# Altium footprint library NXP.PcbLib: 5 footprints (part 3 of 3)
Each footprint in its own frame and in the unit in brackets; x right, y up, seen from the top. Pads: shape width x height; smd on the part's side, far side on the other; paste and mask are expansions set on the pad; w line width, h text height; cw(c..) or ccw(c..) is an arc to the next point about the centre after c.
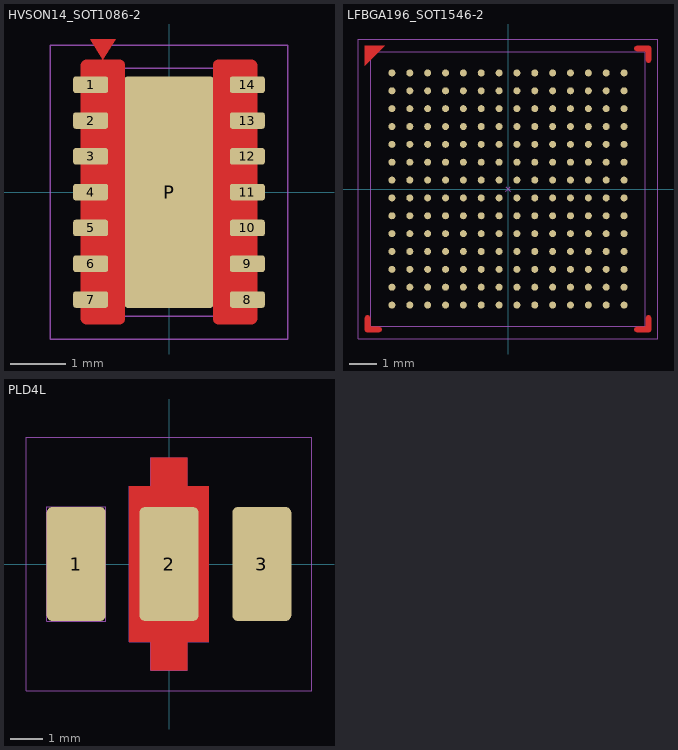
[diagram p2: the footprints below, top view; thin cyan lines are the x and y axes]

## HVSON14_SOT1086-2 [mm]
height 0.9
pads (15):
  rrect30% 0.635x0.3 smd mask+0.051: 1(-1.422,1.95) 2(-1.422,1.3) 3(-1.422,0.65) 4(-1.422,0) 5(-1.422,-0.65) 6(-1.422,-1.3) 7(-1.422,-1.95) 8(1.422,-1.95) 9(1.422,-1.3) 10(1.422,-0.65) 11(1.422,0) 12(1.422,0.65) 13(1.422,1.3) 14(1.422,1.95)
  rrect5% 1.6x4.2 smd paste-200 mask+0.051: P(0,0)
Top Layer:
  region: -1.2,2.4 -0.971,2.781 -1.429,2.781
  pour cut-out: -0.8,2.3 -0.8,2.32 -0.815,2.357 -0.843,2.385 -0.88,2.4 -0.9,2.4 -1.5,2.4 -1.52,2.4 -1.557,2.385 -1.585,2.357 -1.6,2.32 -1.6,2.3 -1.6,-2.3 -1.6,-2.32 -1.585,-2.357 -1.557,-2.385 -1.52,-2.4 -1.5,-2.4 -0.9,-2.4 -0.88,-2.4 -0.843,-2.385 -0.815,-2.357 -0.8,-2.32 -0.8,-2.3
  pour cut-out: 0.8,-2.3 0.8,-2.32 0.815,-2.357 0.843,-2.385 0.88,-2.4 0.9,-2.4 1.5,-2.4 1.52,-2.4 1.557,-2.385 1.585,-2.357 1.6,-2.32 1.6,-2.3 1.6,2.3 1.6,2.32 1.585,2.357 1.557,2.385 1.52,2.4 1.5,2.4 0.9,2.4 0.88,2.4 0.843,2.385 0.815,2.357 0.8,2.32 0.8,2.3
Top Paste:
  rectangle: 0.127,1.432 0.762,2.042
  rectangle: 0.127,0.569 0.762,1.178
  rectangle: 0.127,-0.295 0.762,0.315
  rectangle: -0.762,-0.295 -0.127,0.315
  rectangle: -0.762,0.569 -0.127,1.178
  rectangle: -0.762,1.432 -0.127,2.042
  rectangle: -0.762,-1.178 -0.127,-0.569
  rectangle: -0.762,-2.042 -0.127,-1.432
  rectangle: 0.127,-2.042 0.762,-1.432
  rectangle: 0.127,-1.178 0.762,-0.569
Top Designator:
  text ".Designator" at 0.317,-3.242 h0.89
Top Component Center:
  lines w0.025: -0.076,-0.076 0,0 ; -0.076,0.076 0,0 ; 0.076,-0.076 0,0 ; 0.076,0.076 0,0
Top Courtyard:
  lines w0.025: -2.159,-2.667 -2.159,2.667 2.159,2.667 2.159,-2.667 -2.159,-2.667
Top Component Outline:
  lines w0.025: -1.524,-2.1 -1.096,-2.1 -1.096,-1.8 -1.524,-1.8 -1.524,-2.1 ; -1.524,-1.45 -1.096,-1.45 -1.096,-1.15 -1.524,-1.15 -1.524,-1.45 ; -1.524,-0.8 -1.524,-0.5 -1.096,-0.5 -1.096,-0.8 -1.524,-0.8 ; -1.524,-0.15 -1.524,0.15 -1.096,0.15 -1.096,-0.15 -1.524,-0.15 ; -1.524,0.5 -1.096,0.5 -1.096,0.8 -1.524,0.8 -1.524,0.5 ; -1.524,1.15 -1.524,1.45 -1.096,1.45 -1.096,1.15 -1.524,1.15 ; -1.524,1.8 -1.524,2.1 -1.096,2.1 -1.096,1.8 -1.524,1.8 ; -1.5,-2.25 1.5,-2.25 1.5,2.25 -1.5,2.25 -1.5,-2.25 ; 1.096,-2.1 1.096,-1.8 1.524,-1.8 1.524,-2.1 1.096,-2.1 ; 1.096,-1.45 1.524,-1.45 1.524,-1.15 1.096,-1.15 1.096,-1.45 ; 1.096,-0.8 1.096,-0.5 1.524,-0.5 1.524,-0.8 1.096,-0.8 ; 1.096,-0.15 1.096,0.15 1.524,0.15 1.524,-0.15 1.096,-0.15 ; 1.096,0.5 1.524,0.5 1.524,0.8 1.096,0.8 1.096,0.5 ; 1.096,1.15 1.096,1.45 1.524,1.45 1.524,1.15 1.096,1.15 ; 1.096,1.8 1.524,1.8 1.524,2.1 1.096,2.1 1.096,1.8
3D body: height 0.2, standoff 0, extent -1.524,-0.15 -1.096,0.15
3D body: height 0.2, standoff 0, extent -1.524,1.8 -1.096,2.1
3D body: height 0.2, standoff 0, extent -1.524,1.15 -1.096,1.45
3D body: height 0.2, standoff 0, extent -1.524,0.5 -1.096,0.8
3D body: height 0.85, standoff 0.05, extent -1.5,-2.25 1.5,2.25
3D body: height 0.85, standoff 0.84, extent -1.218,1.665 -0.914,1.969
3D body: height 0.2, standoff 0, extent 1.096,1.15 1.524,1.45
3D body: height 0.2, standoff 0, extent 1.096,0.5 1.524,0.8
3D body: height 0.2, standoff 0, extent 1.096,-0.15 1.524,0.15
3D body: height 0.2, standoff 0, extent 1.096,1.8 1.524,2.1
3D body: height 0.2, standoff 0, extent 1.096,-2.1 1.524,-1.8
3D body: height 0.2, standoff 0, extent 1.096,-1.45 1.524,-1.15
3D body: height 0.2, standoff 0, extent 1.096,-0.8 1.524,-0.5
3D body: height 0.2, standoff 0, extent -1.524,-1.45 -1.096,-1.15
3D body: height 0.2, standoff 0, extent -1.524,-0.8 -1.096,-0.5
3D body: height 0.2, standoff 0, extent -1.524,-2.1 -1.096,-1.8

## LFBGA196_SOT1546-2 [mil]
pads (196):
  round 10 smd mask+1.5: A1(-166.34,166.34) A2(-140.75,166.34) A3(-115.16,166.34) A4(-89.57,166.34) A5(-63.98,166.34) A6(-38.39,166.34) A7(-12.8,166.34) A8(12.8,166.34) A9(38.39,166.34) A10(63.98,166.34) A11(89.57,166.34) A12(115.16,166.34) A13(140.75,166.34) A14(166.34,166.34) B1(-166.34,140.75) B2(-140.75,140.75) B3(-115.16,140.75) B4(-89.57,140.75) B5(-63.98,140.75) B6(-38.39,140.75) B7(-12.8,140.75) B8(12.8,140.75) B9(38.39,140.75) B10(63.98,140.75) B11(89.57,140.75) B12(115.16,140.75) B13(140.75,140.75) B14(166.34,140.75) C1(-166.34,115.16) C2(-140.75,115.16) C3(-115.16,115.16) C4(-89.57,115.16) C5(-63.98,115.16) C6(-38.39,115.16) C7(-12.8,115.16) C8(12.8,115.16) C9(38.39,115.16) C10(63.98,115.16) C11(89.57,115.16) C12(115.16,115.16) C13(140.75,115.16) C14(166.34,115.16) D1(-166.34,89.57) D2(-140.75,89.57) D3(-115.16,89.57) D4(-89.57,89.57) D5(-63.98,89.57) D6(-38.39,89.57) D7(-12.8,89.57) D8(12.8,89.57) D9(38.39,89.57) D10(63.98,89.57) D11(89.57,89.57) D12(115.16,89.57) D13(140.75,89.57) D14(166.34,89.57) E1(-166.34,63.98) E2(-140.75,63.98) E3(-115.16,63.98) E4(-89.57,63.98) E5(-63.98,63.98) E6(-38.39,63.98) E7(-12.8,63.98) E8(12.8,63.98) E9(38.39,63.98) E10(63.98,63.98) E11(89.57,63.98) E12(115.16,63.98) E13(140.75,63.98) E14(166.34,63.98) F1(-166.34,38.39) F2(-140.75,38.39) F3(-115.16,38.39) F4(-89.57,38.39) F5(-63.98,38.39) F6(-38.39,38.39) F7(-12.8,38.39) F8(12.8,38.39) F9(38.39,38.39) F10(63.98,38.39) F11(89.57,38.39) F12(115.16,38.39) F13(140.75,38.39) F14(166.34,38.39) G1(-166.34,12.8) G2(-140.75,12.8) G3(-115.16,12.8) G4(-89.57,12.8) G5(-63.98,12.8) G6(-38.39,12.8) G7(-12.8,12.8) G8(12.8,12.8) G9(38.39,12.8) G10(63.98,12.8) G11(89.57,12.8) G12(115.16,12.8) G13(140.75,12.8) G14(166.34,12.8) H1(-166.34,-12.8) H2(-140.75,-12.8) H3(-115.16,-12.8) H4(-89.57,-12.8) H5(-63.98,-12.8) H6(-38.39,-12.8) H7(-12.8,-12.8) H8(12.8,-12.8) H9(38.39,-12.8) H10(63.98,-12.8) H11(89.57,-12.8) H12(115.16,-12.8) H13(140.75,-12.8) H14(166.34,-12.8) J1(-166.34,-38.39) J2(-140.75,-38.39) J3(-115.16,-38.39) J4(-89.57,-38.39) J5(-63.98,-38.39) J6(-38.39,-38.39) J7(-12.8,-38.39) J8(12.8,-38.39) J9(38.39,-38.39) J10(63.98,-38.39) J11(89.57,-38.39) J12(115.16,-38.39) J13(140.75,-38.39) J14(166.34,-38.39) K1(-166.34,-63.98) K2(-140.75,-63.98) K3(-115.16,-63.98) K4(-89.57,-63.98) K5(-63.98,-63.98) K6(-38.39,-63.98) K7(-12.8,-63.98) K8(12.8,-63.98) K9(38.39,-63.98) K10(63.98,-63.98) K11(89.57,-63.98) K12(115.16,-63.98) K13(140.75,-63.98) K14(166.34,-63.98) L1(-166.34,-89.57) L2(-140.75,-89.57) L3(-115.16,-89.57) L4(-89.57,-89.57) L5(-63.98,-89.57) L6(-38.39,-89.57) L7(-12.8,-89.57) L8(12.8,-89.57) L9(38.39,-89.57) L10(63.98,-89.57) L11(89.57,-89.57) L12(115.16,-89.57) L13(140.75,-89.57) L14(166.34,-89.57) M1(-166.34,-115.16) M2(-140.75,-115.16) M3(-115.16,-115.16) M4(-89.57,-115.16) M5(-63.98,-115.16) M6(-38.39,-115.16) M7(-12.8,-115.16) M8(12.8,-115.16) M9(38.39,-115.16) M10(63.98,-115.16) M11(89.57,-115.16) M12(115.16,-115.16) M13(140.75,-115.16) M14(166.34,-115.16) N1(-166.34,-140.75) N2(-140.75,-140.75) N3(-115.16,-140.75) N4(-89.57,-140.75) N5(-63.98,-140.75) N6(-38.39,-140.75) N7(-12.8,-140.75) N8(12.8,-140.75) N9(38.39,-140.75) N10(63.98,-140.75) N11(89.57,-140.75) N12(115.16,-140.75) N13(140.75,-140.75) N14(166.34,-140.75) P1(-166.34,-166.34) P2(-140.75,-166.34) P3(-115.16,-166.34) P4(-89.57,-166.34) P5(-63.98,-166.34) P6(-38.39,-166.34) P7(-12.8,-166.34) P8(12.8,-166.34) P9(38.39,-166.34) P10(63.98,-166.34) P11(89.57,-166.34) P12(115.16,-166.34) P13(140.75,-166.34) P14(166.34,-166.34)
Top Layer:
  region: -205.31,205.31 -205.31,176.77 -176.77,205.31
  region: 197.32,185.31 197.32,184.52 197.92,183.05 199.05,181.92 200.52,181.31 201.32,181.31 202.11,181.31 203.58,181.92 204.71,183.05 205.32,184.52 205.32,185.31 205.32,201.31 205.32,202.11 204.71,203.58 203.58,204.71 202.11,205.31 201.32,205.31 185.32,205.31 184.52,205.31 183.05,204.71 181.92,203.58 181.32,202.11 181.32,201.31 181.32,200.52 181.92,199.05 183.05,197.92 184.52,197.31 185.32,197.31 195.32,197.31 195.71,197.28 196.43,196.98 196.98,196.43 197.28,195.71 197.32,195.31
  region: -197.32,-185.31 -197.32,-184.52 -197.92,-183.05 -199.05,-181.92 -200.52,-181.31 -201.32,-181.31 -202.11,-181.31 -203.58,-181.92 -204.71,-183.05 -205.32,-184.52 -205.32,-185.31 -205.32,-201.31 -205.32,-202.11 -204.71,-203.58 -203.58,-204.71 -202.11,-205.31 -201.32,-205.31 -185.32,-205.31 -184.52,-205.31 -183.05,-204.71 -181.92,-203.58 -181.32,-202.11 -181.32,-201.31 -181.32,-200.52 -181.92,-199.05 -183.05,-197.92 -184.52,-197.31 -185.32,-197.31 -195.32,-197.31 -195.71,-197.28 -196.43,-196.98 -196.98,-196.43 -197.28,-195.71 -197.32,-195.31
  region: 185.31,-197.32 184.52,-197.32 183.05,-197.92 181.92,-199.05 181.31,-200.52 181.31,-201.32 181.31,-202.11 181.92,-203.58 183.05,-204.71 184.52,-205.32 185.31,-205.32 201.31,-205.32 202.11,-205.32 203.58,-204.71 204.71,-203.58 205.31,-202.11 205.31,-201.32 205.31,-185.32 205.31,-184.52 204.71,-183.05 203.58,-181.92 202.11,-181.32 201.31,-181.32 200.52,-181.32 199.05,-181.92 197.92,-183.05 197.31,-184.52 197.31,-185.32 197.31,-195.32 197.28,-195.71 196.98,-196.43 196.43,-196.98 195.71,-197.28 195.31,-197.32
Top Designator:
  text ".Designator" at -127.64,-12.5 h35
Top Component Center:
  lines w1: -3,-3 0,0 ; -3,3 0,0 ; 3,-3 0,0 ; 3,3 0,0
Top Courtyard:
  lines w1: -215,-215 -215,215 215,215 215,-215 -215,-215
Top Component Outline:
  lines w1: -196.85,-196.85 -196.85,196.85 196.85,196.85 196.85,-196.85 -196.85,-196.85
3D body: height 56.5, standoff 56.1, extent -176.26,156.36 -156.34,176.32
3D body: height 56.3, standoff 7.87, extent -196.85,-196.85 196.85,196.85
3D body: height 10.24, standoff -2.36, extent -172.54,160.42 -160.13,172.64
3D body: height 10.24, standoff -2.36, extent -146.95,160.42 -134.54,172.64
3D body: height 10.24, standoff -2.36, extent -121.36,160.42 -108.95,172.64
3D body: height 10.24, standoff -2.36, extent -95.77,160.42 -83.36,172.64
3D body: height 10.24, standoff -2.36, extent -70.18,160.42 -57.77,172.64
3D body: height 10.24, standoff -2.36, extent -44.59,160.42 -32.18,172.64
3D body: height 10.24, standoff -2.36, extent -19,160.42 -6.59,172.64
3D body: height 10.24, standoff -2.36, extent 6.59,160.42 19,172.64
3D body: height 10.24, standoff -2.36, extent 32.18,160.42 44.59,172.64
3D body: height 10.24, standoff -2.36, extent 57.77,160.42 70.18,172.64
3D body: height 10.24, standoff -2.36, extent 83.36,160.42 95.77,172.64
3D body: height 10.24, standoff -2.36, extent 108.95,160.42 121.36,172.64
3D body: height 10.24, standoff -2.36, extent 134.54,160.42 146.95,172.64
3D body: height 10.24, standoff -2.36, extent 160.13,160.42 172.54,172.64
3D body: height 10.24, standoff -2.36, extent -172.54,134.83 -160.13,147.05
3D body: height 10.24, standoff -2.36, extent -146.95,134.83 -134.54,147.05
3D body: height 10.24, standoff -2.36, extent -121.36,134.83 -108.95,147.05
3D body: height 10.24, standoff -2.36, extent -95.77,134.83 -83.36,147.05
3D body: height 10.24, standoff -2.36, extent -70.18,134.83 -57.77,147.05
3D body: height 10.24, standoff -2.36, extent -44.59,134.83 -32.18,147.05
3D body: height 10.24, standoff -2.36, extent -19,134.83 -6.59,147.05
3D body: height 10.24, standoff -2.36, extent 6.59,134.83 19,147.05
3D body: height 10.24, standoff -2.36, extent 32.18,134.83 44.59,147.05
3D body: height 10.24, standoff -2.36, extent 57.77,134.83 70.18,147.05
3D body: height 10.24, standoff -2.36, extent 83.36,134.83 95.77,147.05
3D body: height 10.24, standoff -2.36, extent 108.95,134.83 121.36,147.05
3D body: height 10.24, standoff -2.36, extent 134.54,134.83 146.95,147.05
3D body: height 10.24, standoff -2.36, extent 160.13,134.83 172.54,147.05
3D body: height 10.24, standoff -2.36, extent -172.54,109.24 -160.13,121.46
3D body: height 10.24, standoff -2.36, extent -146.95,109.24 -134.54,121.46
3D body: height 10.24, standoff -2.36, extent -121.36,109.24 -108.95,121.46
3D body: height 10.24, standoff -2.36, extent -95.77,109.24 -83.36,121.46
3D body: height 10.24, standoff -2.36, extent -70.18,109.24 -57.77,121.46
3D body: height 10.24, standoff -2.36, extent -44.59,109.24 -32.18,121.46
3D body: height 10.24, standoff -2.36, extent -19,109.24 -6.59,121.46
3D body: height 10.24, standoff -2.36, extent 6.59,109.24 19,121.46
3D body: height 10.24, standoff -2.36, extent 32.18,109.24 44.59,121.46
3D body: height 10.24, standoff -2.36, extent 57.77,109.24 70.18,121.46
3D body: height 10.24, standoff -2.36, extent 83.36,109.24 95.77,121.46
3D body: height 10.24, standoff -2.36, extent 108.95,109.24 121.36,121.46
3D body: height 10.24, standoff -2.36, extent 134.54,109.24 146.95,121.46
3D body: height 10.24, standoff -2.36, extent 160.13,109.24 172.54,121.46
3D body: height 10.24, standoff -2.36, extent -172.54,83.65 -160.13,95.87
3D body: height 10.24, standoff -2.36, extent -146.95,83.65 -134.54,95.87
3D body: height 10.24, standoff -2.36, extent -121.36,83.65 -108.95,95.87
3D body: height 10.24, standoff -2.36, extent -95.77,83.65 -83.36,95.87
3D body: height 10.24, standoff -2.36, extent -70.18,83.65 -57.77,95.87
3D body: height 10.24, standoff -2.36, extent -44.59,83.65 -32.18,95.87
3D body: height 10.24, standoff -2.36, extent -19,83.65 -6.59,95.87
3D body: height 10.24, standoff -2.36, extent 6.59,83.65 19,95.87
3D body: height 10.24, standoff -2.36, extent 32.18,83.65 44.59,95.87
3D body: height 10.24, standoff -2.36, extent 57.77,83.65 70.18,95.87
3D body: height 10.24, standoff -2.36, extent 83.36,83.65 95.77,95.87
3D body: height 10.24, standoff -2.36, extent 108.95,83.65 121.36,95.87
3D body: height 10.24, standoff -2.36, extent 134.54,83.65 146.95,95.87
3D body: height 10.24, standoff -2.36, extent 160.13,83.65 172.54,95.87
3D body: height 10.24, standoff -2.36, extent -172.54,58.06 -160.13,70.28
3D body: height 10.24, standoff -2.36, extent -146.95,58.06 -134.54,70.28
3D body: height 10.24, standoff -2.36, extent -121.36,58.06 -108.95,70.28
3D body: height 10.24, standoff -2.36, extent -95.77,58.06 -83.36,70.28
3D body: height 10.24, standoff -2.36, extent -70.18,58.06 -57.77,70.28
3D body: height 10.24, standoff -2.36, extent -44.59,58.06 -32.18,70.28
3D body: height 10.24, standoff -2.36, extent -19,58.06 -6.59,70.28
3D body: height 10.24, standoff -2.36, extent 6.59,58.06 19,70.28
3D body: height 10.24, standoff -2.36, extent 32.18,58.06 44.59,70.28
3D body: height 10.24, standoff -2.36, extent 57.77,58.06 70.18,70.28
3D body: height 10.24, standoff -2.36, extent 83.36,58.06 95.77,70.28
3D body: height 10.24, standoff -2.36, extent 108.95,58.06 121.36,70.28
3D body: height 10.24, standoff -2.36, extent 134.54,58.06 146.95,70.28
3D body: height 10.24, standoff -2.36, extent 160.13,58.06 172.54,70.28
3D body: height 10.24, standoff -2.36, extent -172.54,32.47 -160.13,44.69
3D body: height 10.24, standoff -2.36, extent -146.95,32.47 -134.54,44.69
3D body: height 10.24, standoff -2.36, extent -121.36,32.47 -108.95,44.69
3D body: height 10.24, standoff -2.36, extent -95.77,32.47 -83.36,44.69
3D body: height 10.24, standoff -2.36, extent -70.18,32.47 -57.77,44.69
3D body: height 10.24, standoff -2.36, extent -44.59,32.47 -32.18,44.69
3D body: height 10.24, standoff -2.36, extent -19,32.47 -6.59,44.69
3D body: height 10.24, standoff -2.36, extent 6.59,32.47 19,44.69
3D body: height 10.24, standoff -2.36, extent 32.18,32.47 44.59,44.69
3D body: height 10.24, standoff -2.36, extent 57.77,32.47 70.18,44.69
3D body: height 10.24, standoff -2.36, extent 83.36,32.47 95.77,44.69
3D body: height 10.24, standoff -2.36, extent 108.95,32.47 121.36,44.69
3D body: height 10.24, standoff -2.36, extent 134.54,32.47 146.95,44.69
3D body: height 10.24, standoff -2.36, extent 160.13,32.47 172.54,44.69
3D body: height 10.24, standoff -2.36, extent -172.54,6.88 -160.13,19.1
3D body: height 10.24, standoff -2.36, extent -146.95,6.88 -134.54,19.1
3D body: height 10.24, standoff -2.36, extent -121.36,6.88 -108.95,19.1
3D body: height 10.24, standoff -2.36, extent -95.77,6.88 -83.36,19.1
3D body: height 10.24, standoff -2.36, extent -70.18,6.88 -57.77,19.1
3D body: height 10.24, standoff -2.36, extent -44.59,6.88 -32.18,19.1
3D body: height 10.24, standoff -2.36, extent -19,6.88 -6.59,19.1
3D body: height 10.24, standoff -2.36, extent 6.59,6.88 19,19.1
3D body: height 10.24, standoff -2.36, extent 32.18,6.88 44.59,19.1
3D body: height 10.24, standoff -2.36, extent 57.77,6.88 70.18,19.1
3D body: height 10.24, standoff -2.36, extent 83.36,6.88 95.77,19.1
3D body: height 10.24, standoff -2.36, extent 108.95,6.88 121.36,19.1
3D body: height 10.24, standoff -2.36, extent 134.54,6.88 146.95,19.1
3D body: height 10.24, standoff -2.36, extent 160.13,6.88 172.54,19.1
3D body: height 10.24, standoff -2.36, extent -172.54,-18.71 -160.13,-6.49
3D body: height 10.24, standoff -2.36, extent -146.95,-18.71 -134.54,-6.49
3D body: height 10.24, standoff -2.36, extent -121.36,-18.71 -108.95,-6.49
3D body: height 10.24, standoff -2.36, extent -95.77,-18.71 -83.36,-6.49
3D body: height 10.24, standoff -2.36, extent -70.18,-18.71 -57.77,-6.49
3D body: height 10.24, standoff -2.36, extent -44.59,-18.71 -32.18,-6.49
3D body: height 10.24, standoff -2.36, extent -19,-18.71 -6.59,-6.49
3D body: height 10.24, standoff -2.36, extent 6.59,-18.71 19,-6.49
3D body: height 10.24, standoff -2.36, extent 32.18,-18.71 44.59,-6.49
3D body: height 10.24, standoff -2.36, extent 57.77,-18.71 70.18,-6.49
3D body: height 10.24, standoff -2.36, extent 83.36,-18.71 95.77,-6.49
3D body: height 10.24, standoff -2.36, extent 108.95,-18.71 121.36,-6.49
3D body: height 10.24, standoff -2.36, extent 134.54,-18.71 146.95,-6.49
3D body: height 10.24, standoff -2.36, extent 160.13,-18.71 172.54,-6.49
3D body: height 10.24, standoff -2.36, extent -172.54,-44.3 -160.13,-32.09
3D body: height 10.24, standoff -2.36, extent -146.95,-44.3 -134.54,-32.09
3D body: height 10.24, standoff -2.36, extent -121.36,-44.3 -108.95,-32.09
3D body: height 10.24, standoff -2.36, extent -95.77,-44.3 -83.36,-32.09
3D body: height 10.24, standoff -2.36, extent -70.18,-44.3 -57.77,-32.09
3D body: height 10.24, standoff -2.36, extent -44.59,-44.3 -32.18,-32.09
3D body: height 10.24, standoff -2.36, extent -19,-44.3 -6.59,-32.09
3D body: height 10.24, standoff -2.36, extent 6.59,-44.3 19,-32.09
3D body: height 10.24, standoff -2.36, extent 32.18,-44.3 44.59,-32.09
3D body: height 10.24, standoff -2.36, extent 57.77,-44.3 70.18,-32.09
3D body: height 10.24, standoff -2.36, extent 83.36,-44.3 95.77,-32.09
3D body: height 10.24, standoff -2.36, extent 108.95,-44.3 121.36,-32.09
3D body: height 10.24, standoff -2.36, extent 134.54,-44.3 146.95,-32.09
3D body: height 10.24, standoff -2.36, extent 160.13,-44.3 172.54,-32.09
3D body: height 10.24, standoff -2.36, extent -172.54,-69.89 -160.13,-57.68
3D body: height 10.24, standoff -2.36, extent -146.95,-69.89 -134.54,-57.68
3D body: height 10.24, standoff -2.36, extent -121.36,-69.89 -108.95,-57.68
3D body: height 10.24, standoff -2.36, extent -95.77,-69.89 -83.36,-57.68
3D body: height 10.24, standoff -2.36, extent -70.18,-69.89 -57.77,-57.68
3D body: height 10.24, standoff -2.36, extent -44.59,-69.89 -32.18,-57.68
3D body: height 10.24, standoff -2.36, extent -19,-69.89 -6.59,-57.68
3D body: height 10.24, standoff -2.36, extent 6.59,-69.89 19,-57.68
3D body: height 10.24, standoff -2.36, extent 32.18,-69.89 44.59,-57.68
3D body: height 10.24, standoff -2.36, extent 57.77,-69.89 70.18,-57.68
3D body: height 10.24, standoff -2.36, extent 83.36,-69.89 95.77,-57.68
3D body: height 10.24, standoff -2.36, extent 108.95,-69.89 121.36,-57.68
3D body: height 10.24, standoff -2.36, extent 134.54,-69.89 146.95,-57.68
3D body: height 10.24, standoff -2.36, extent 160.13,-69.89 172.54,-57.68
3D body: height 10.24, standoff -2.36, extent -172.54,-95.48 -160.13,-83.27
3D body: height 10.24, standoff -2.36, extent -146.95,-95.48 -134.54,-83.27
3D body: height 10.24, standoff -2.36, extent -121.36,-95.48 -108.95,-83.27
3D body: height 10.24, standoff -2.36, extent -95.77,-95.48 -83.36,-83.27
3D body: height 10.24, standoff -2.36, extent -70.18,-95.48 -57.77,-83.27
3D body: height 10.24, standoff -2.36, extent -44.59,-95.48 -32.18,-83.27
3D body: height 10.24, standoff -2.36, extent -19,-95.48 -6.59,-83.27
3D body: height 10.24, standoff -2.36, extent 6.59,-95.48 19,-83.27
3D body: height 10.24, standoff -2.36, extent 32.18,-95.48 44.59,-83.27
3D body: height 10.24, standoff -2.36, extent 57.77,-95.48 70.18,-83.27
3D body: height 10.24, standoff -2.36, extent 83.36,-95.48 95.77,-83.27
3D body: height 10.24, standoff -2.36, extent 108.95,-95.48 121.36,-83.27
3D body: height 10.24, standoff -2.36, extent 134.54,-95.48 146.95,-83.27
3D body: height 10.24, standoff -2.36, extent 160.13,-95.48 172.54,-83.27
3D body: height 10.24, standoff -2.36, extent -172.54,-121.07 -160.13,-108.86
3D body: height 10.24, standoff -2.36, extent -146.95,-121.07 -134.54,-108.86
3D body: height 10.24, standoff -2.36, extent -121.36,-121.07 -108.95,-108.86
3D body: height 10.24, standoff -2.36, extent -95.77,-121.07 -83.36,-108.86
3D body: height 10.24, standoff -2.36, extent -70.18,-121.07 -57.77,-108.86
3D body: height 10.24, standoff -2.36, extent -44.59,-121.07 -32.18,-108.86
3D body: height 10.24, standoff -2.36, extent -19,-121.07 -6.59,-108.86
3D body: height 10.24, standoff -2.36, extent 6.59,-121.07 19,-108.86
3D body: height 10.24, standoff -2.36, extent 32.18,-121.07 44.59,-108.86
3D body: height 10.24, standoff -2.36, extent 57.77,-121.07 70.18,-108.86
3D body: height 10.24, standoff -2.36, extent 83.36,-121.07 95.77,-108.86
3D body: height 10.24, standoff -2.36, extent 108.95,-121.07 121.36,-108.86
3D body: height 10.24, standoff -2.36, extent 134.54,-121.07 146.95,-108.86
3D body: height 10.24, standoff -2.36, extent 160.13,-121.07 172.54,-108.86
3D body: height 10.24, standoff -2.36, extent -172.54,-146.67 -160.13,-134.45
3D body: height 10.24, standoff -2.36, extent -146.95,-146.67 -134.54,-134.45
3D body: height 10.24, standoff -2.36, extent -121.36,-146.67 -108.95,-134.45
3D body: height 10.24, standoff -2.36, extent -95.77,-146.67 -83.36,-134.45
3D body: height 10.24, standoff -2.36, extent -70.18,-146.67 -57.77,-134.45
3D body: height 10.24, standoff -2.36, extent -44.59,-146.67 -32.18,-134.45
3D body: height 10.24, standoff -2.36, extent -19,-146.67 -6.59,-134.45
3D body: height 10.24, standoff -2.36, extent 6.59,-146.67 19,-134.45
3D body: height 10.24, standoff -2.36, extent 32.18,-146.67 44.59,-134.45
3D body: height 10.24, standoff -2.36, extent 57.77,-146.67 70.18,-134.45
3D body: height 10.24, standoff -2.36, extent 83.36,-146.67 95.77,-134.45
3D body: height 10.24, standoff -2.36, extent 108.95,-146.67 121.36,-134.45
3D body: height 10.24, standoff -2.36, extent 134.54,-146.67 146.95,-134.45
3D body: height 10.24, standoff -2.36, extent 160.13,-146.67 172.54,-134.45
3D body: height 10.24, standoff -2.36, extent -172.54,-172.26 -160.13,-160.04
3D body: height 10.24, standoff -2.36, extent -146.95,-172.26 -134.54,-160.04
3D body: height 10.24, standoff -2.36, extent -121.36,-172.26 -108.95,-160.04
3D body: height 10.24, standoff -2.36, extent -95.77,-172.26 -83.36,-160.04
3D body: height 10.24, standoff -2.36, extent -70.18,-172.26 -57.77,-160.04
3D body: height 10.24, standoff -2.36, extent -44.59,-172.26 -32.18,-160.04
3D body: height 10.24, standoff -2.36, extent -19,-172.26 -6.59,-160.04
3D body: height 10.24, standoff -2.36, extent 6.59,-172.26 19,-160.04
3D body: height 10.24, standoff -2.36, extent 32.18,-172.26 44.59,-160.04
3D body: height 10.24, standoff -2.36, extent 57.77,-172.26 70.18,-160.04
3D body: height 10.24, standoff -2.36, extent 83.36,-172.26 95.77,-160.04
3D body: height 10.24, standoff -2.36, extent 108.95,-172.26 121.36,-160.04
3D body: height 10.24, standoff -2.36, extent 134.54,-172.26 146.95,-160.04
3D body: height 10.24, standoff -2.36, extent 160.13,-172.26 172.54,-160.04

## PLD4L [mil]
pads (3):
  rrect20% 72.5x140 smd mask+2: 1(-113.75,0) 2(0,0) 3(113.75,0)
Top Layer:
  region: -22.5,130 22.5,130 22.5,95 48.5,95 48.5,-95 22.5,-95 22.5,-130 -22.5,-130 -22.5,-95 -48.5,-95 -48.5,95 -22.5,95
Top Solder:
  region: -110,-136 -121,-155 -99,-155
Top Courtyard:
  lines w1: -175,-155 175,-155 175,155 -175,155 -175,-155
Top Component Outline:
  lines w1: -150,0 -77.5,0 ; -17.5,-100 -17.5,-125 17.5,-125 17.5,-100 ; -17.5,100 -17.5,125 17.5,125 17.5,100 ; -150,-70 -150,70 -77.5,70 -77.5,-70 -150,-70 ; -48.5,-95 -48.5,95 -22.5,95 -22.5,130 22.5,130 22.5,95 48.5,95 48.5,-95 22.5,-95 22.5,-130 -22.5,-130 -22.5,-95 -48.5,-95
3D body "AFT09MS007NT1.stp": height 68.5, standoff 0, extent -139.47,-125 139.47,125